# Altium schematic symbol library yldziotlib-sensor.SchLib: 5 symbols
Pins are listed as number, name and electrical type; pins without a type are passive.

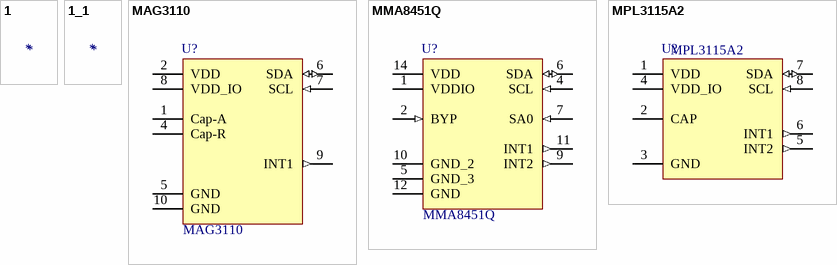
[diagram p0: symbols 1 to MPL3115A2]

## 1
designator *
Suplier: Digikey; Stock Code: *; Footprint: *; Satın Alma Linki: *; Datasheet: *; Man PN: *; Sup PN: *; Manufacturer: *; Value: *

## 1_1
designator *
Suplier: Digikey; Stock Code: *; Footprint: *; Satın Alma Linki: *; Datasheet: *; Man PN: *; Sup PN: *; Manufacturer: *; Value: *

## MAG3110
designator U?
Freescale’s MAG3110 is a small, low-power, digital 3-axis magnetometer.; Birim Fiyat: 2,12; MN: NXP; Stock Code: *; Footprint: DFN-10; Supplier Link: https://www.digikey.com/product-detail/en/nxp-usa-inc/MAG3110FCR1/MAG3110FCR1CT-ND/3524267; Supplier: Digikey; Datasheet: https://media.digikey.com/pdf/Data%20Sheets/NXP%20PDFs/MAG3110.pdf; MP: MAG3110; Supplier PN: MAG3110FCR1CT-ND; Value: MAG3110
footprint dfn-10
pins: 1 Cap-A (power), 2 VDD (power), 3 NC (power) hidden, 4 Cap-R (power), 5 GND (power), 6 SDA (io), 7 SCL (in), 8 VDD_IO (power), 9 INT1 (out), 10 GND (power)

## MMA8451Q
designator U?
3-axis, 14-bit/8-bit   digital accelerometer; Suplier: Digikey; Sup PN: MMA8451QT-ND; MF: NXP; Stock Code: *; Footprint: QFN-16; Supplier Link: https://www.digikey.com/product-detail/en/nxp-usa-inc/MMA8451QT/MMA8451QT-ND/2444755; Datasheet: http://cache.freescale.com/files/sensors/doc/data_sheet/MMA8451Q.pdf; MP: MMA8451Q; Value: MMA8451Q
footprint QFN50P300X300X100-16N
pins: 1 VDDIO (power), 2 BYP (in), 3 NC_2 hidden, 4 SCL (in), 5 GND_3, 6 SDA (io), 7 SA0 (in), 8 NC_5 hidden, 9 INT2 (out), 10 GND_2, 11 INT1 (out), 12 GND, 13 NC_3 hidden, 14 VDD (power), 15 NC_4 hidden, 16 NC hidden

## MPL3115A2
designator U?
I2C precision pressure sensor with altimetry; Birim Fiyat: 4,32; Supp PN: MPL3115A2-ND; MF: NXP; Stock Code: *; Footprint: 8-TLGA; Supplier Link: https://www.digikey.com/product-detail/en/nxp-usa-inc/MPL3115A2/MPL3115A2-ND/2817529; Supplier: Digikey; Datasheet: https://media.digikey.com/pdf/Data%20Sheets/NXP%20PDFs/MPL3115A2.pdf; MP: MPL3115A2; Value: MPL3115A2
footprint tlga-8
pins: 1 VDD (power), 2 CAP (power), 3 GND (power), 4 VDD_IO (power), 5 INT2 (out), 6 INT1 (out), 7 SDA (io), 8 SCL (in)